# Altium schematic symbol library Mechanical_Connectors_Terminal_GOST.SchLib: 12 symbols
Pins are listed as number, name and electrical type; pins without a type are passive.

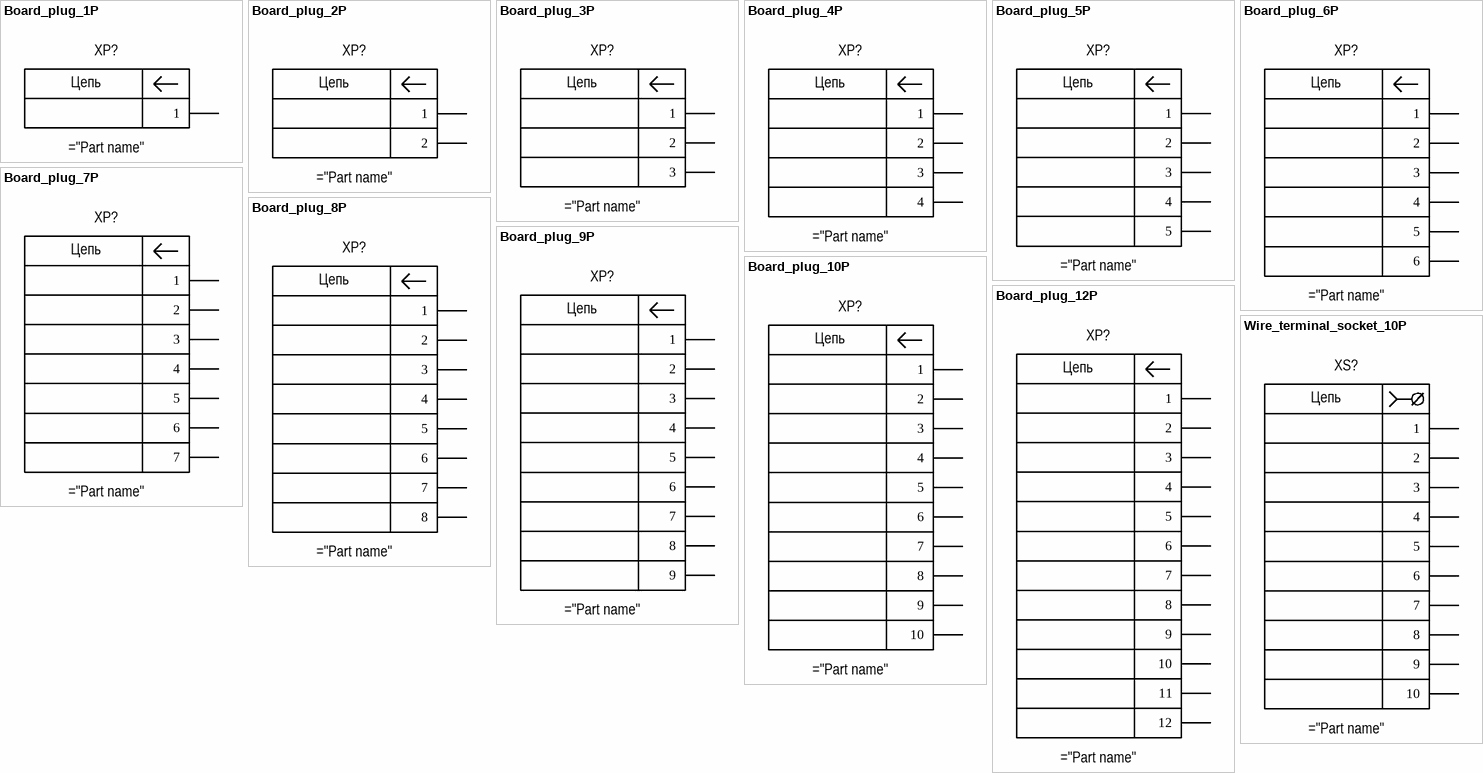
[diagram p0: symbols Board_plug_1P to Wire_terminal_socket_10P]

## Board_plug_1P
designator XP?
pins: 1
text: Цепь

## Board_plug_2P
designator XP?
pins: 1, 2
text: Цепь

## Board_plug_3P
designator XP?
pins: 1, 2, 3
text: Цепь

## Board_plug_4P
designator XP?
pins: 1, 2, 3, 4
text: Цепь

## Board_plug_5P
designator XP?
pins: 1, 2, 3, 4, 5
text: Цепь

## Board_plug_6P
designator XP?
pins: 1, 2, 3, 4, 5, 6
text: Цепь

## Board_plug_7P
designator XP?
pins: 1, 2, 3, 4, 5, 6, 7
text: Цепь

## Board_plug_8P
designator XP?
pins: 1, 2, 3, 4, 5, 6, 7, 8
text: Цепь

## Board_plug_9P
designator XP?
pins: 1, 2, 3, 4, 5, 6, 7, 8, 9
text: Цепь

## Board_plug_10P
designator XP?
pins: 1, 2, 3, 4, 5, 6, 7, 8, 9, 10
text: Цепь

## Board_plug_12P
designator XP?
pins: 1, 2, 3, 4, 5, 6, 7, 8, 9, 10, 11, 12
text: Цепь

## Wire_terminal_socket_10P
designator XS?
pins: 1, 2, 3, 4, 5, 6, 7, 8, 9, 10
text: Цепь